# Altium footprint library HM2100NLT.PcbLib: 1 footprints
Each footprint in its own frame and in the unit in brackets; x right, y up, seen from the top. Pads: shape width x height; smd on the part's side, far side on the other; paste and mask are expansions set on the pad; w line width, h text height; cw(c..) or ccw(c..) is an arc to the next point about the centre after c.
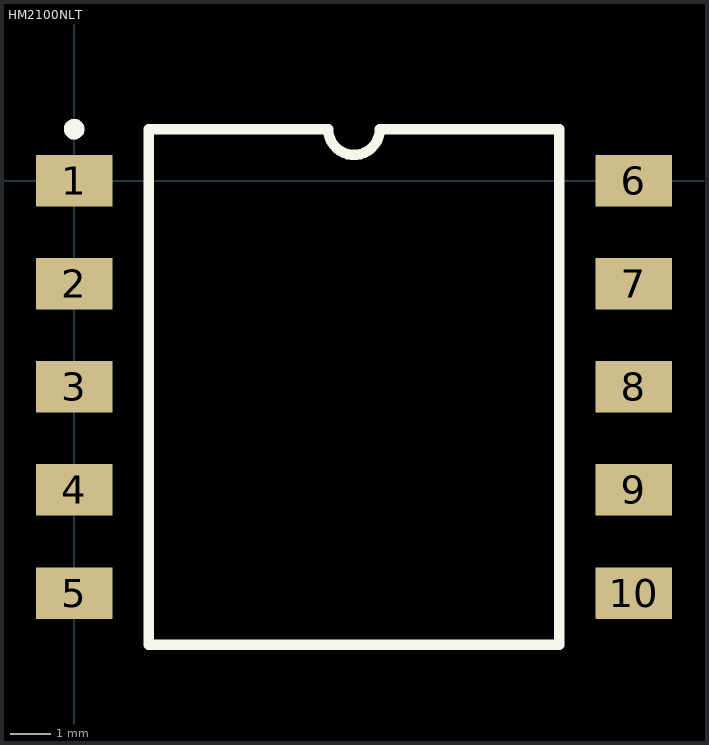
[diagram p0: the footprint, top view; thin cyan lines are the x and y axes]

## HM2100NLT [mm]
pads (10):
  rect 1.89x1.27 smd: 1(0,0) 2(0,-2.54) 3(0,-5.08) 4(0,-7.62) 5(0,-10.16) 6(13.79,0) 7(13.79,-2.54) 8(13.79,-5.08) 9(13.79,-7.62) 10(13.79,-10.16)
Top Overlay:
  circle w0.254: c0,1.27 r0.127
  lines w0.254: 1.834,-11.43 11.956,-11.43 11.956,1.27 7.53,1.27 cw(c6.895,1.27) 6.26,1.27 1.834,1.27 1.834,-11.43
3D body "HM2100NL_3D.STEP": height 3.3, standoff 0.05, extent -0.498,-12.303 14.467,2.397